# EAGLE library part SX18AC/DP (library ubicom)
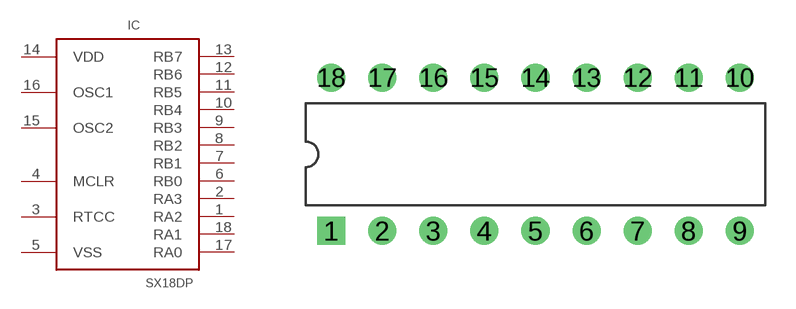
[diagram p2: symbol with the pads of 18DIP; footprint 18DIP]

Designator prefix IC

## SX18AC/DP  [18DIP]
1  RA2
2  RA3
3  RTCC  in
4  MCLR  in
5  VSS  pwr
6  RB0
7  RB1
8  RB2
9  RB3
10  RB4
11  RB5
12  RB6
13  RB7
14  VDD  pwr
15  OSC2  out
16  OSC1  in
17  RA0
18  RA1

## Footprint 18DIP (pad centres in mm)
drill 0.813 pad 1.397 square: 1 -16.192,-3.81
drill 0.813 pad 1.397 round: 2 -13.652,-3.81; 3 -11.113,-3.81; 4 -8.572,-3.81; 5 -6.032,-3.81; 6 -3.493,-3.81; 7 -0.953,-3.81; 8 1.587,-3.81; 9 4.128,-3.81; 10 4.128,3.81; 11 1.587,3.81; 12 -0.953,3.81; 13 -3.493,3.81; 14 -6.032,3.81; 15 -8.572,3.81; 16 -11.113,3.81; 17 -13.652,3.81; 18 -16.192,3.81